# Altium schematic symbol library SCH - POWER - LINEAR VREG - ONSEMI NCP176.SchLib: 1 symbol
Pins are listed as number, name and electrical type; pins without a type are passive.

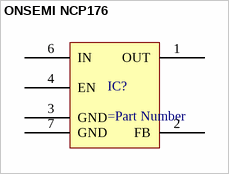
[diagram p0: symbol ONSEMI NCP176]

## ONSEMI NCP176
designator IC?
pins: 1 OUT, 2 FB, 3 GND, 4 EN, 6 IN, 7 GND